# EAGLE library part LM2954M-3.3 (library kanflo)
LM2594 SIMPLE SWITCHER® Power Converter 150 kHz 0.5A Step-Down Voltage Regulator. 3.3V 500mA
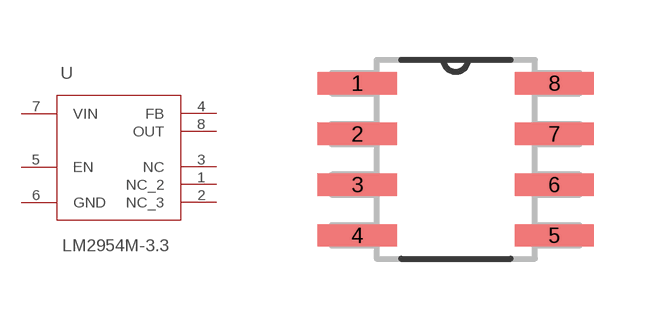
[diagram p19: symbol with the pads of SOIC-8; footprint SOIC-8]

Designator prefix -

## LM2954M-3.3SOIC8 (MPN: LM2594M-3.3; OC_FARNELL: 1215200; PACKAGE: SOIC-8; SUPPLIER: Texas Instruments)  [SOIC-8]
1  NC_2  nc
2  NC_3  nc
3  NC  nc
4  FB  in
5  EN  in
6  GND  pas
7  VIN  pwr
8  OUT  out

## Footprint SOIC-8 (pad centres in mm)
smd 1.981 x 0.559: 1 -2.464,1.905; 2 -2.464,0.635; 3 -2.464,-0.635; 4 -2.464,-1.905; 5 2.464,-1.905; 6 2.464,-0.635; 7 2.464,0.635; 8 2.464,1.905